# Altium footprint library WE-PDF.PcbLib: 2 footprints
Each footprint in its own frame and in the unit in brackets; x right, y up, seen from the top. Pads: shape width x height; smd on the part's side, far side on the other; paste and mask are expansions set on the pad; w line width, h text height; cw(c..) or ccw(c..) is an arc to the next point about the centre after c.
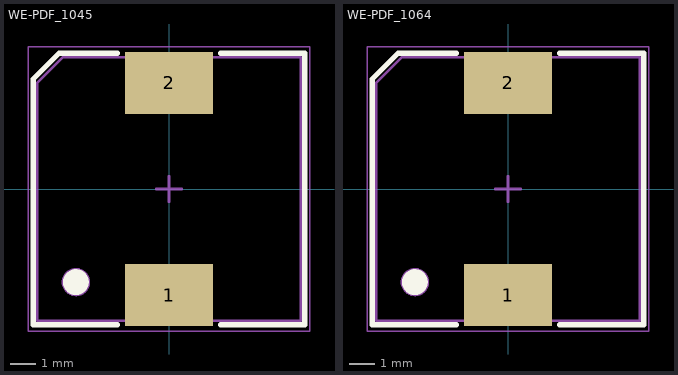
[diagram p0: the footprints below, top view; thin cyan lines are the x and y axes]

## WE-PDF_1045 [mm] "SMD Shielded Power Inductor, body 10.2x10.2mm"
height 4.5
pads (2):
  rect 3.4x2.4 smd: 1(0,-4.1) 2(0,4.1)
Top Overlay:
  circle w0.5: c-3.6,-3.6 r0.25
  lines w0.2: -2,-5.25 -5.25,-5.25 -5.25,4.25 -4.25,5.25 -2,5.25 ; 2,-5.25 5.25,-5.25 5.25,5.25 2,5.25
Top Assembly:
  circle w0.1: c-3.6,-3.6 r0.5
  lines w0.1: -5.1,-5.1 -5.1,4.1 -4.1,5.1 5.1,5.1 5.1,-5.1 -5.1,-5.1
Top Designator:
  text ".Designator" at -3.647,-0.357 h1
Top 3D Body:
  circle w0.1: c-3.6,-3.6 r0.5
  lines w0.1: -5.1,-5.1 -5.1,4.1 -4.1,5.1 5.1,5.1 5.1,-5.1 -5.1,-5.1
Top Courtyard:
  lines w0.05: -5.45,-5.5 5.45,-5.5 5.45,5.5 -5.45,5.5 -5.45,-5.5
Top Component Center:
  lines w0.1: -0.5,0 0.5,0 ; 0,-0.5 0,0.5
3D body "7447797xxx.stp": height 4.5, standoff 0, extent -5.1,-5.1 5.1,5.1

## WE-PDF_1064 [mm] "SMD Shielded Power Inductor, body 10.2x10.2mm"
height 6.4
pads (2):
  rect 3.4x2.4 smd: 1(0,-4.1) 2(0,4.1)
Top Overlay:
  circle w0.5: c-3.6,-3.6 r0.25
  lines w0.2: -2,-5.25 -5.25,-5.25 -5.25,4.25 -4.25,5.25 -2,5.25 ; 2,-5.25 5.25,-5.25 5.25,5.25 2,5.25
Top Assembly:
  circle w0.1: c-3.6,-3.6 r0.5
  lines w0.1: -5.1,-5.1 5.1,-5.1 5.1,5.1 -4.1,5.1 -5.1,4.1 -5.1,-5.1
Top Designator:
  text ".Designator" at -3.647,-0.357 h1
Top 3D Body:
  circle w0.1: c-3.6,-3.6 r0.5
  lines w0.1: -5.1,-5.1 5.1,-5.1 5.1,5.1 -4.1,5.1 -5.1,4.1 -5.1,-5.1
Top Courtyard:
  lines w0.05: -5.45,-5.5 -5.45,5.5 5.45,5.5 5.45,-5.5 -5.45,-5.5
Top Component Center:
  lines w0.1: -0.5,0 0.5,0 ; 0,-0.5 0,0.5
3D body "7447798xxx.stp": height 6.4, standoff 0, extent -5.1,-5.1 5.1,5.1